# EAGLE library part GSM-SIM300 (library selfmade)
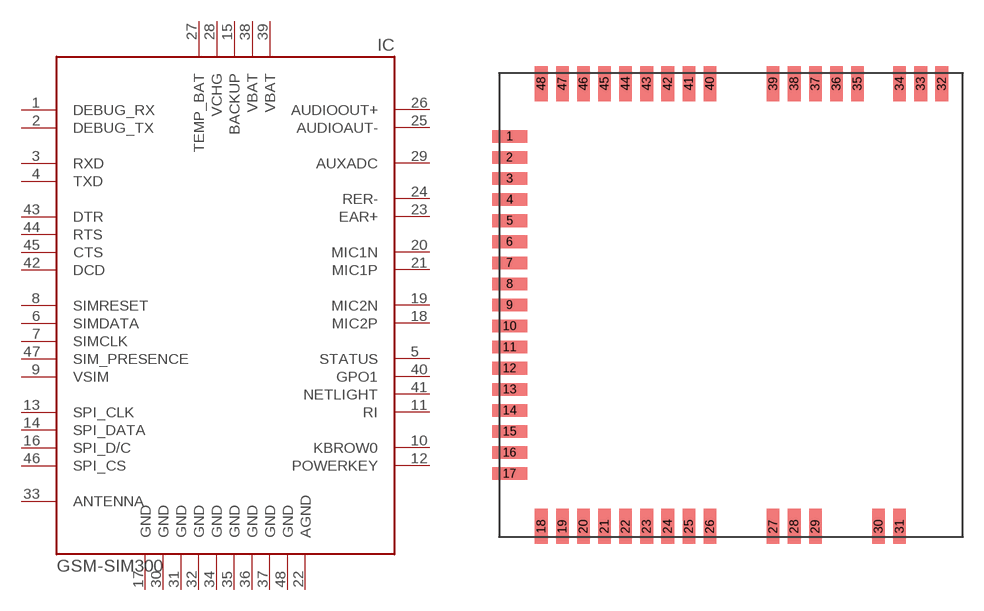
[diagram p11: symbol with the pads of SIM300D; footprint SIM300D]

Designator prefix IC

## GSM-SIM300D  [SIM300D]
1  DEBUG_RX  in
2  DEBUG_TX  out
3  RXD  in
4  TXD  out
5  STATUS  out
6  SIMDATA
7  SIMCLK  out
8  SIMRESET  out
9  VSIM  sup
10  KBROW0  in
11  RI  out
12  POWERKEY  in
13  SPI_CLK  out
14  SPI_DATA
15  BACKUP  sup
16  SPI_D/C  out
17  GND  sup
18  MIC2P  in
19  MIC2N  in
20  MIC1N  in
21  MIC1P  in
22  AGND  sup
23  EAR+  out
24  RER-  out
25  AUDIOAUT-  out
26  AUDIOOUT+  out
27  TEMP_BAT  in
28  VCHG  sup
29  AUXADC  in
30  GND  sup
31  GND  sup
32  GND  sup
33  ANTENNA  out
34  GND  sup
35  GND  sup
36  GND  sup
37  GND  sup
38  VBAT  sup
39  VBAT  sup
40  GPO1  out
41  NETLIGHT  out
42  DCD  out
43  DTR  in
44  RTS  in
45  CTS  out
46  SPI_CS  out
47  SIM_PRESENCE  in
48  GND  sup

## Footprint SIM300D (pad centres in mm)
smd 2.5 x 0.9: 1 -15.75,12; 2 -15.75,10.5; 3 -15.75,9; 4 -15.75,7.5; 5 -15.75,6; 6 -15.75,4.5; 7 -15.75,3; 8 -15.75,1.5; 9 -15.75,0; 10 -15.75,-1.5; 11 -15.75,-3; 12 -15.75,-4.5; 13 -15.75,-6; 14 -15.75,-7.5; 15 -15.75,-9; 16 -15.75,-10.5; 17 -15.75,-12
smd 0.9 x 2.5: 18 -13.5,-15.75; 19 -12,-15.75; 20 -10.5,-15.75; 21 -9,-15.75; 22 -7.5,-15.75; 23 -6,-15.75; 24 -4.5,-15.75; 25 -3,-15.75; 26 -1.5,-15.75; 27 3,-15.75; 28 4.5,-15.75; 29 6,-15.75; 30 10.5,-15.75; 31 12,-15.75; 32 15,15.75; 33 13.5,15.75; 34 12,15.75; 35 9,15.75; 36 7.5,15.75; 37 6,15.75; 38 4.5,15.75; 39 3,15.75; 40 -1.5,15.75; 41 -3,15.75; 42 -4.5,15.75; 43 -6,15.75; 44 -7.5,15.75; 45 -9,15.75; 46 -10.5,15.75; 47 -12,15.75; 48 -13.5,15.75